# EAGLE library part 78602 (library trafo-murata)
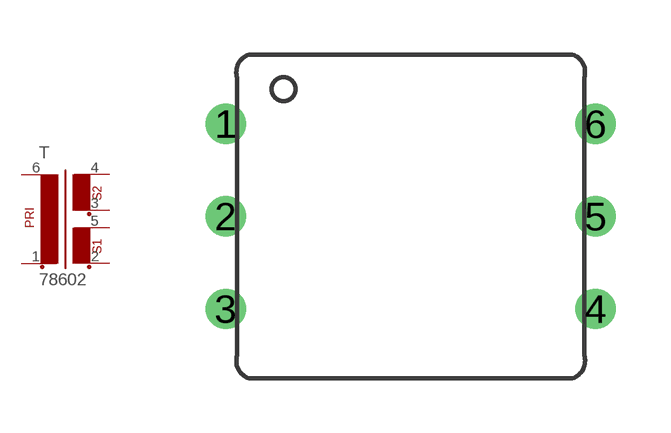
[diagram p5: symbol with the pads of 786-6; footprint 786-6]

Designator prefix T

## 78602  [786-6]
1  P1  pas
2  S11  pas
3  S21  pas
4  S22  pas
5  S12  pas
6  P2  pas

## Footprint 786-6 (pad centres in mm)
drill 0.6 round: 1 -5.08,2.54; 2 -5.08,0; 3 -5.08,-2.54; 4 5.08,-2.54; 5 5.08,0; 6 5.08,2.54